# EAGLE library part TMS320F2803*PAG (library ic-TI-DSP)
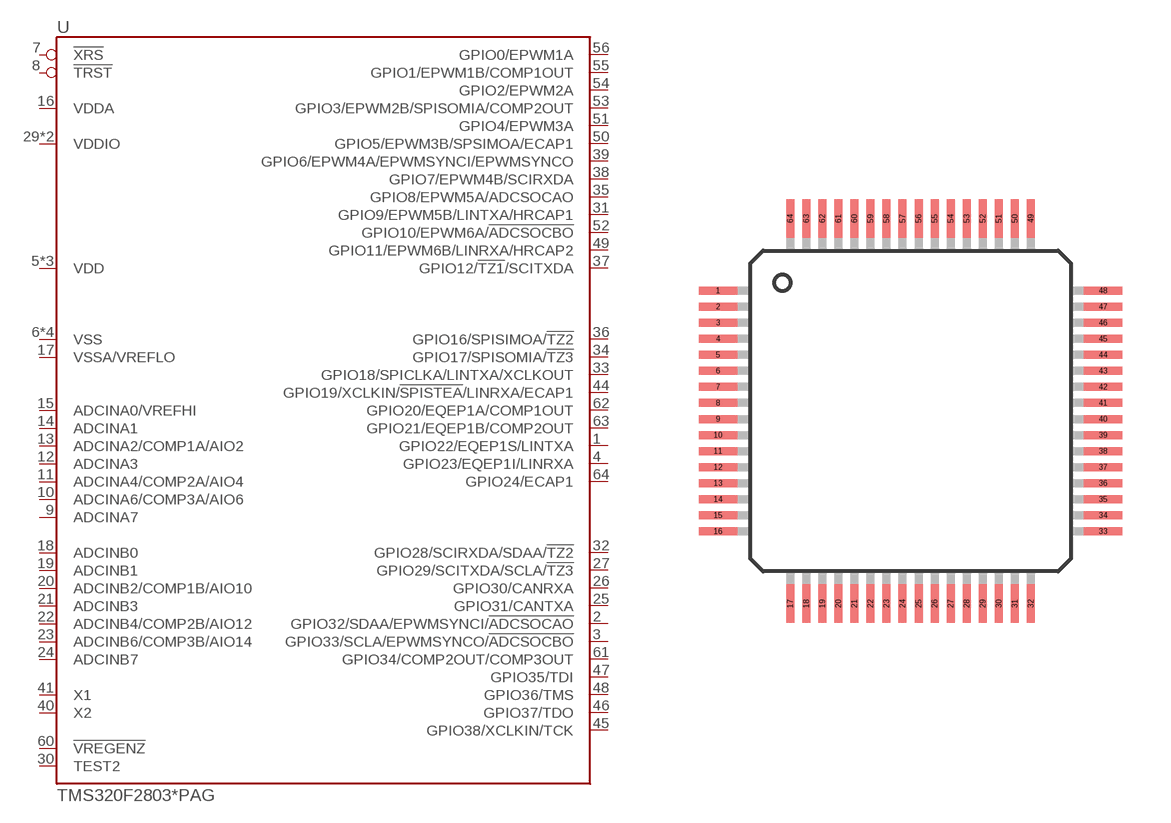
[diagram p1: symbol with the pads of QFP64-0.5; footprint QFP64-0.5]

Designator prefix U

## TMS320F28030PAG, TMS320F28031PAG, TMS320F28032PAG, TMS320F28033PAG, TMS320F28034PAG, TMS320F28035PAG  [QFP64-0.5]
1  GPIO22/EQEP1S/LINTXA
2  GPIO32/SDAA/EPWMSYNCI/!ADCSOCAO!
3  GPIO33/SCLA/EPWMSYNCO/!ADCSOCBO!
4  GPIO23/EQEP1I/LINRXA
5  VDD
6  VSS
7  !XRS
8  !TRST
9  ADCINA7
10  ADCINA6/COMP3A/AIO6
11  ADCINA4/COMP2A/AIO4
12  ADCINA3
13  ADCINA2/COMP1A/AIO2
14  ADCINA1
15  ADCINA0/VREFHI
16  VDDA
17  VSSA/VREFLO
18  ADCINB0
19  ADCINB1
20  ADCINB2/COMP1B/AIO10
21  ADCINB3
22  ADCINB4/COMP2B/AIO12
23  ADCINB6/COMP3B/AIO14
24  ADCINB7
25  GPIO31/CANTXA
26  GPIO30/CANRXA
27  GPIO29/SCITXDA/SCLA/!TZ3!
28  VSS
29  VDDIO
30  TEST2
31  GPIO9/EPWM5B/LINTXA/HRCAP1
32  GPIO28/SCIRXDA/SDAA/!TZ2!
33  GPIO18/SPICLKA/LINTXA/XCLKOUT
34  GPIO17/SPISOMIA/!TZ3!
35  GPIO8/EPWM5A/ADCSOCAO
36  GPIO16/SPISIMOA/!TZ2!
37  GPIO12/!TZ1!/SCITXDA
38  GPIO7/EPWM4B/SCIRXDA
39  GPIO6/EPWM4A/EPWMSYNCI/EPWMSYNCO
40  X2
41  X1
42  VSS
43  VDD
44  GPIO19/XCLKIN/!SPISTEA!/LINRXA/ECAP1
45  GPIO38/XCLKIN/TCK
46  GPIO37/TDO
47  GPIO35/TDI
48  GPIO36/TMS
49  GPIO11/EPWM6B/LINRXA/HRCAP2
50  GPIO5/EPWM3B/SPSIMOA/ECAP1
51  GPIO4/EPWM3A
52  GPIO10/EPWM6A/!ADCSOCBO!
53  GPIO3/EPWM2B/SPISOMIA/COMP2OUT
54  GPIO2/EPWM2A
55  GPIO1/EPWM1B/COMP1OUT
56  GPIO0/EPWM1A
57  VDDIO
58  VSS
59  VDD
60  !VREGENZ
61  GPIO34/COMP2OUT/COMP3OUT
62  GPIO20/EQEP1A/COMP1OUT
63  GPIO21/EQEP1B/COMP2OUT
64  GPIO24/ECAP1

## Footprint QFP64-0.5 (pad centres in mm)
smd 1.2 x 0.25: 1 -6,3.75; 2 -6,3.25; 3 -6,2.75; 4 -6,2.25; 5 -6,1.75; 6 -6,1.25; 7 -6,0.75; 8 -6,0.25; 9 -6,-0.25; 10 -6,-0.75; 11 -6,-1.25; 12 -6,-1.75; 13 -6,-2.25; 14 -6,-2.75; 15 -6,-3.25; 16 -6,-3.75; 33 6,-3.75; 34 6,-3.25; 35 6,-2.75; 36 6,-2.25; 37 6,-1.75; 38 6,-1.25; 39 6,-0.75; 40 6,-0.25; 41 6,0.25; 42 6,0.75; 43 6,1.25; 44 6,1.75; 45 6,2.25; 46 6,2.75; 47 6,3.25; 48 6,3.75
smd 0.25 x 1.2: 17 -3.75,-6; 18 -3.25,-6; 19 -2.75,-6; 20 -2.25,-6; 21 -1.75,-6; 22 -1.25,-6; 23 -0.75,-6; 24 -0.25,-6; 25 0.25,-6; 26 0.75,-6; 27 1.25,-6; 28 1.75,-6; 29 2.25,-6; 30 2.75,-6; 31 3.25,-6; 32 3.75,-6; 49 3.75,6; 50 3.25,6; 51 2.75,6; 52 2.25,6; 53 1.75,6; 54 1.25,6; 55 0.75,6; 56 0.25,6; 57 -0.25,6; 58 -0.75,6; 59 -1.25,6; 60 -1.75,6; 61 -2.25,6; 62 -2.75,6; 63 -3.25,6; 64 -3.75,6